# Altium footprint library LCD5.0_RGB888.PcbLib: 11 footprints
Each footprint in its own frame and in the unit in brackets; x right, y up, seen from the top. Pads: shape width x height; smd on the part's side, far side on the other; paste and mask are expansions set on the pad; w line width, h text height; cw(c..) or ccw(c..) is an arc to the next point about the centre after c.
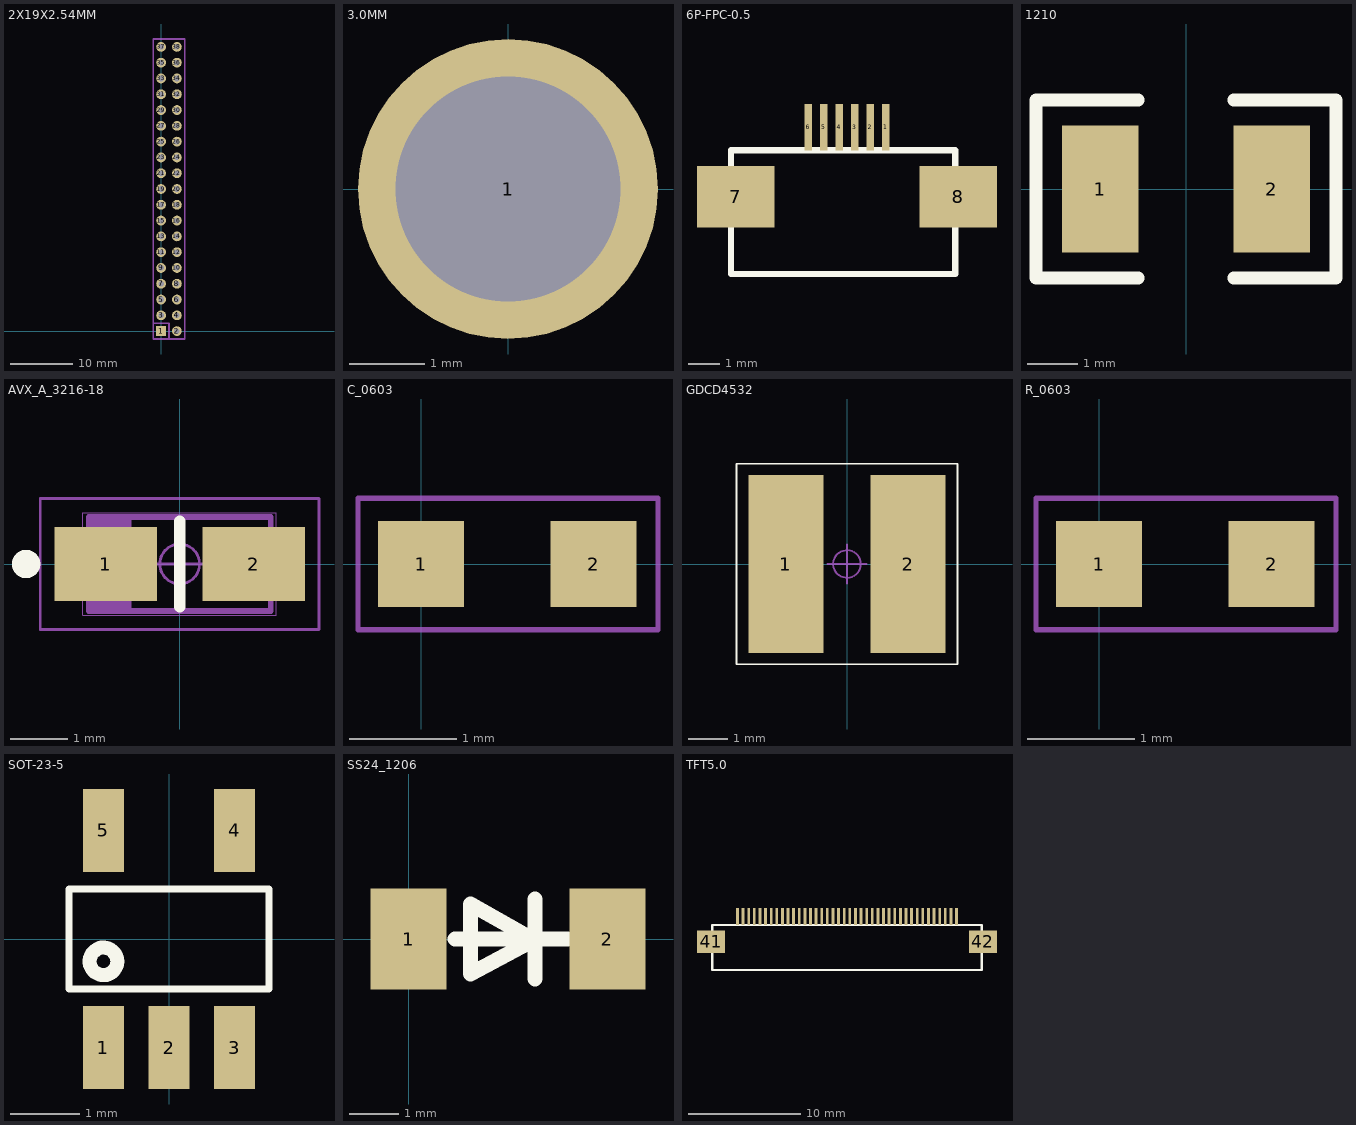
[diagram p0: the footprints below, top view; thin cyan lines are the x and y axes]

## 2X19X2.54MM [mil]
pads (38):
  rrect0% 62x62 all layers, no hole: 1(0,0)
  round 62 hole 35.43: 2(100,0) 3(0,100) 4(100,100) 5(0,200) 6(100,200) 7(0,300) 8(100,300) 9(0,400) 10(100,400) 11(0,500) 12(100,500) 13(0,600) 14(100,600) 15(0,700) 16(100,700) 17(0,800) 18(100,800) 19(0,900) 20(100,900) 21(0,1000) 22(100,1000) 23(0,1100) 24(100,1100) 25(0,1200) 26(100,1200) 27(0,1300) 28(100,1300) 29(0,1400) 30(100,1400) 31(0,1500) 32(100,1500) 33(0,1600) 34(100,1600) 35(0,1700) 36(100,1700) 37(0,1800) 38(100,1800)
Mechanical 1:
  lines w12: -50,50 50,50 50,-50 ; -50,-50 -50,1850 150,1850 150,-50 -50,-50

## 3.0MM [mm]
pads (1):
  round 4 hole 3: 1(0,0)

## 6P-FPC-0.5 [mm]
pads (8):
  rect 0.25x1.5 smd: 1(46,43.45) 2(45.5,43.45) 3(45,43.45) 4(44.5,43.45) 5(44,43.45) 6(43.5,43.45)
  rect 2.5x2 smd: 7(41.15,41.2) 8(48.35,41.2)
Top Overlay:
  lines w0.2: 41,38.7 41,42.7 48.25,42.7 48.25,38.7 41,38.7

## 1210 [mil]
pads (2):
  rect 60x100 smd: 1(-67.5,0) 2(67.5,0)
Top Overlay:
  lines w10: -37.5,-70 -118,-70 -118,70 -37.5,70 ; 37.5,-70 118,-70 118,70 37.5,70

## AVX_A_3216-18 [mm]
height 1.6
pads (2):
  rect 1.8x1.3 smd: 1(-1.3,0) 2(1.3,0)
Top Overlay:
  circle w0.25: c-2.7,0 r0.125
  lines w0.2: 0,-0.75 0,0.75
Mechanical 1:
  lines w0.1: -1.5,-0.825 -1.5,0.825 ; -1.4,-0.825 -1.4,0.825 ; -1.3,-0.825 -1.3,0.825 ; -1.2,-0.825 -1.2,0.825 ; -1.1,-0.825 -1.1,0.825 ; -1,-0.825 -1,0.825 ; -0.9,-0.825 -0.9,0.825 ; -1.6,-0.825 -1.6,0.825 1.6,0.825 1.6,-0.825 -1.6,-0.825
Mechanical 16:
  circle w0.05: c0,0 r0.35
  lines w0.001: -1.7,-0.9 -1.7,0.9 1.7,0.9 1.7,-0.9 -1.7,-0.9
  lines w0.05: -0.5,0 0.5,0 ; 0,-0.5 0,0.5 ; -2.45,-1.15 -2.45,1.15 2.45,1.15 2.45,-1.15 -2.45,-1.15

## C_0603 [mm]
pads (2):
  rect 0.8x0.8 smd: 1(0,0) 2(1.6,0)
Mechanical 1:
  lines w0.051: -0.584,-0.61 -0.584,0.61 2.197,0.61 2.197,-0.61 -0.584,-0.61

## GDCD4532 [mm]
height 5.3
pads (2):
  rect 1.9x4.5 smd: 1(-1.55,0) 2(1.55,0)
Top Overlay:
  lines w0.05: -2.794,-2.54 2.794,-2.54 2.794,2.54 -2.794,2.54 -2.794,-2.54
Mechanical 16:
  circle w0.05: c0,0 r0.35
  lines w0.05: -0.5,0 0.5,0 ; 0,-0.5 0,0.5

## R_0603 [mm]
pads (2):
  rect 0.8x0.8 smd: 1(0,0) 2(1.6,0)
Mechanical 1:
  lines w0.051: -0.584,-0.61 -0.584,0.61 2.197,0.61 2.197,-0.61 -0.584,-0.61

## SOT-23-5 [mm]
pads (5):
  rect 0.6x1.2 smd: 1(-0.95,-1.575) 2(0,-1.575) 3(0.95,-1.575) 4(0.95,1.575) 5(-0.95,1.575)
Top Overlay:
  circle w0.203: c-0.95,-0.325 r0.2
  lines w0.102: -1.45,-0.725 -1.45,0.475 -1.45,0.725 1.45,0.725 1.45,0.475 1.45,-0.725 -1.45,-0.725

## SS24_1206 [mil]
pads (2):
  rect 60x80 smd: 1(0,0) 2(157.48,0)
Top Overlay:
  lines w12: 36.92,-0.13 125.98,-0.13 ; 100.17,-31.5 100.17,31.5 ; 49.17,-27.56 49.17,27.56 100.17,-1.13 100.17,-0.13 49.17,-27.56

## TFT5.0 [mm]
pads (42):
  rect 0.25x1.5 smd: 1(46,43.45) 2(45.5,43.45) 3(45,43.45) 4(44.5,43.45) 5(44,43.45) 6(43.5,43.45) 7(43,43.45) 8(42.5,43.45) 9(42,43.45) 10(41.5,43.45) 11(41,43.45) 12(40.5,43.45) 13(40,43.45) 14(39.5,43.45) 15(39,43.45) 16(38.5,43.45) 17(38,43.45) 18(37.5,43.45) 19(37,43.45) 20(36.5,43.45) 21(36,43.45) 22(35.5,43.45) 23(35,43.45) 24(34.5,43.45) 25(34,43.45) 26(33.5,43.45) 27(33,43.45) 28(32.5,43.45) 29(32,43.45) 30(31.5,43.45) 31(31,43.45) 32(30.5,43.45) 33(30,43.45) 34(29.5,43.45) 35(29,43.45) 36(28.5,43.45) 37(28,43.45) 38(27.5,43.45) 39(27,43.45) 40(26.5,43.45)
  rect 2.5x2 smd: 41(24.15,41.2) 42(48.35,41.2)
Top Overlay:
  lines w0.2: 24.25,38.7 24.25,42.7 48.25,42.7 48.25,38.7 24.25,38.7